# Altium footprint library National Semiconductor Footprints.PcbLib: 194 footprints (part 3 of 13)
Each footprint in its own frame and in the unit in brackets; x right, y up, seen from the top. Pads: shape width x height; smd on the part's side, far side on the other; paste and mask are expansions set on the pad; w line width, h text height; cw(c..) or ccw(c..) is an arc to the next point about the centre after c.
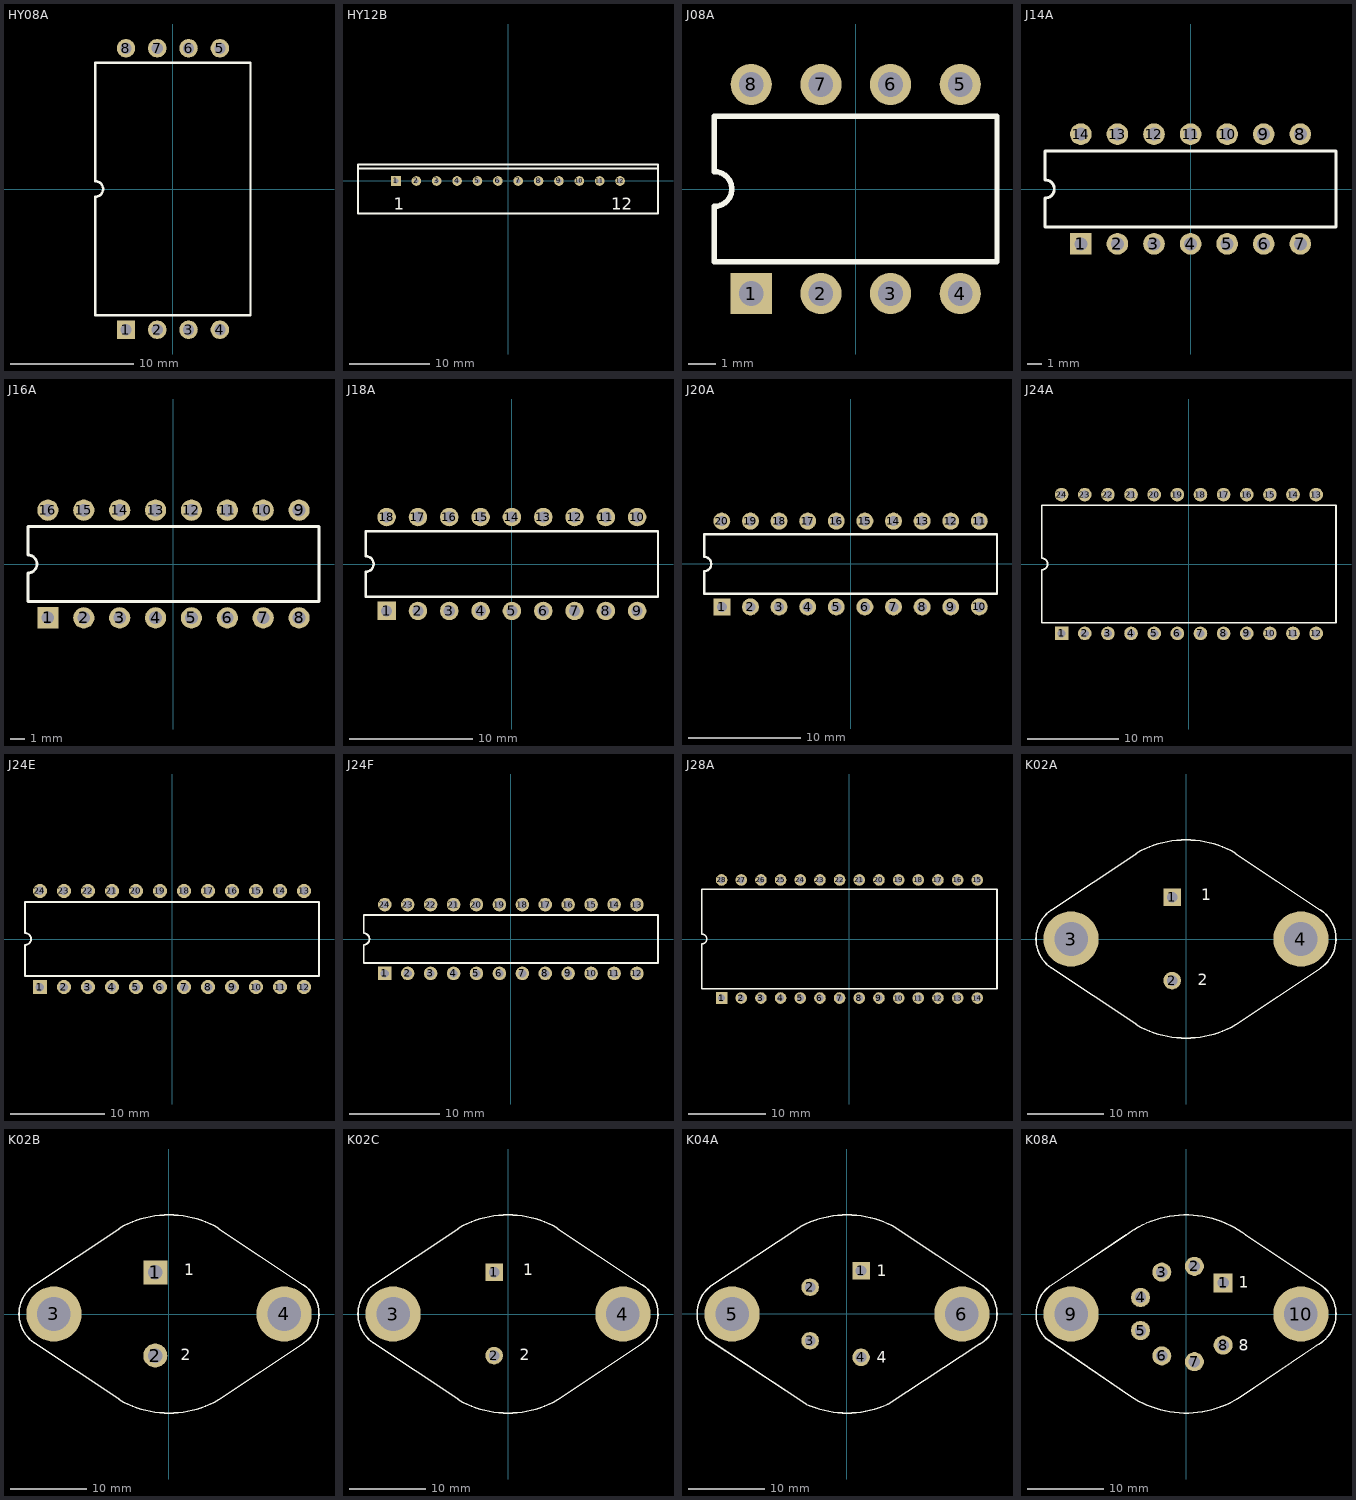
[diagram p2: the footprints below, top view; thin cyan lines are the x and y axes]

## HY08A [mm] "DIP; 8 Leads; Row Spacing 22.86 mm; Pitch 2.54 mm"
height 5.24
pads (8):
  rect 1.5x1.5 hole 0.9: 1(-3.81,-11.43)
  round 1.5 hole 0.9: 2(-1.27,-11.43) 3(1.27,-11.43) 4(3.81,-11.43) 5(3.81,11.43) 6(1.27,11.43) 7(-1.27,11.43) 8(-3.81,11.43)
Top Overlay:
  lines w0.2: 6.3,-10.25 -6.3,-10.25 -6.3,-0.635 ccw(c-6.3,0) -6.3,0.635 -6.3,10.25 6.3,10.25 6.3,-10.2

## HY12B [mm] "TO, Thru-Hole, Vertical, Heatsink Mounted; 12 In-Line Leads; Pitch 2.54 mm"
height 15.6
pads (12):
  rect 1.2x1.2 hole 0.6: 1(-13.97,0)
  round 1.2 hole 0.6: 2(-11.43,0) 3(-8.89,0) 4(-6.35,0) 5(-3.81,0) 6(-1.27,0) 7(1.27,0) 8(3.81,0) 9(6.35,0) 10(8.89,0) 11(11.43,0) 12(13.97,0)
Top Overlay:
  lines w0.2: -18.7,1.55 18.7,1.55 ; -18.7,-4.05 18.7,-4.05 18.7,2.05 -18.7,2.05 -18.7,-4.05
  text "1" at -14.22,-3.575 h1.5
  text "12" at 12.845,-3.575 h1.5

## J08A [mm] "DIP; 8 Leads; Row Spacing 7.62 mm; Pitch 2.54 mm"
height 5.08
pads (8):
  rect 1.5x1.5 hole 0.9: 1(-3.81,-3.81)
  round 1.5 hole 0.9: 2(-1.27,-3.81) 3(1.27,-3.81) 4(3.81,-3.81) 5(3.81,3.81) 6(1.27,3.81) 7(-1.27,3.81) 8(-3.81,3.81)
Top Overlay:
  lines w0.2: -5.15,-2.65 -5.15,-0.635 ccw(c-5.15,0) -5.15,0.635 -5.15,2.65 5.15,2.65 5.15,-2.65 -5.15,-2.65

## J14A [mm] "DIP; 14 Leads; Row Spacing 7.62 mm; Pitch 2.54 mm"
height 5.08
pads (14):
  rect 1.5x1.5 hole 0.9: 1(-7.62,-3.81)
  round 1.5 hole 0.9: 2(-5.08,-3.81) 3(-2.54,-3.81) 4(0,-3.81) 5(2.54,-3.81) 6(5.08,-3.81) 7(7.62,-3.81) 8(7.62,3.81) 9(5.08,3.81) 10(2.54,3.81) 11(0,3.81) 12(-2.54,3.81) 13(-5.08,3.81) 14(-7.62,3.81)
Top Overlay:
  lines w0.2: -10.1,-2.65 -10.1,-0.635 ccw(c-10.1,0) -10.1,0.635 -10.1,2.65 10.1,2.65 10.1,-2.65 -10.1,-2.65

## J16A [mm] "DIP; 16 Leads; Row Spacing 7.62 mm; Pitch 2.54 mm"
height 5.08
pads (16):
  rect 1.5x1.5 hole 0.9: 1(-8.89,-3.81)
  round 1.5 hole 0.9: 2(-6.35,-3.81) 3(-3.81,-3.81) 4(-1.27,-3.81) 5(1.27,-3.81) 6(3.81,-3.81) 7(6.35,-3.81) 8(8.89,-3.81) 9(8.89,3.81) 10(6.35,3.81) 11(3.81,3.81) 12(1.27,3.81) 13(-1.27,3.81) 14(-3.81,3.81) 15(-6.35,3.81) 16(-8.89,3.81)
Top Overlay:
  lines w0.2: -10.3,-2.65 -10.3,-0.635 ccw(c-10.3,0) -10.3,0.635 -10.3,2.65 10.3,2.65 10.3,-2.65 -10.3,-2.65

## J18A [mm] "DIP; 18 Leads; Row Spacing 7.62 mm; Pitch 2.54 mm"
height 5.08
pads (18):
  rect 1.5x1.5 hole 0.9: 1(-10.16,-3.81)
  round 1.5 hole 0.9: 2(-7.62,-3.81) 3(-5.08,-3.81) 4(-2.54,-3.81) 5(0,-3.81) 6(2.54,-3.81) 7(5.08,-3.81) 8(7.62,-3.81) 9(10.16,-3.81) 10(10.16,3.81) 11(7.62,3.81) 12(5.08,3.81) 13(2.54,3.81) 14(0,3.81) 15(-2.54,3.81) 16(-5.08,3.81) 17(-7.62,3.81) 18(-10.16,3.81)
Top Overlay:
  lines w0.2: -11.85,-2.65 11.85,-2.65 11.85,2.65 -11.85,2.65 -11.85,0.635 cw(c-11.85,0) -11.85,-0.635 -11.85,-2.65

## J20A [mm] "DIP; 20 Leads; Row Spacing 7.62 mm; Pitch 2.54 mm"
height 5.08
pads (20):
  rect 1.5x1.5 hole 0.9: 1(-11.43,-3.81)
  round 1.5 hole 0.9: 2(-8.89,-3.81) 3(-6.35,-3.81) 4(-3.81,-3.81) 5(-1.27,-3.81) 6(1.27,-3.81) 7(3.81,-3.81) 8(6.35,-3.81) 9(8.89,-3.81) 10(11.43,-3.81) 11(11.43,3.81) 12(8.89,3.81) 13(6.35,3.81) 14(3.81,3.81) 15(1.27,3.81) 16(-1.27,3.81) 17(-3.81,3.81) 18(-6.35,3.81) 19(-8.89,3.81) 20(-11.43,3.81)
Top Overlay:
  lines w0.2: -13,-2.65 -13,-0.635 ccw(c-13,0) -13,0.635 -13,2.65 13,2.65 13,-2.65 -13,-2.65

## J24A [mm] "DIP; 24 Leads; Row Spacing 15.24 mm; Pitch 2.54 mm"
height 5.72
pads (24):
  rect 1.5x1.5 hole 0.9: 1(-13.97,-7.62)
  round 1.5 hole 0.9: 2(-11.43,-7.62) 3(-8.89,-7.62) 4(-6.35,-7.62) 5(-3.81,-7.62) 6(-1.27,-7.62) 7(1.27,-7.62) 8(3.81,-7.62) 9(6.35,-7.62) 10(8.89,-7.62) 11(11.43,-7.62) 12(13.97,-7.62) 13(13.97,7.62) 14(11.43,7.62) 15(8.89,7.62) 16(6.35,7.62) 17(3.81,7.62) 18(1.27,7.62) 19(-1.27,7.62) 20(-3.81,7.62) 21(-6.35,7.62) 22(-8.89,7.62) 23(-11.43,7.62) 24(-13.97,7.62)
Top Overlay:
  lines w0.2: -16.15,-6.45 -16.15,-0.635 ccw(c-16.15,0) -16.15,0.635 -16.15,6.45 16.15,6.45 16.15,-6.45 -16.15,-6.45

## J24E [mm] "DIP; 24 Leads; Row Spacing 10.16 mm; Pitch 2.54 mm"
height 5.72
pads (24):
  rect 1.5x1.5 hole 0.9: 1(-13.97,-5.08)
  round 1.5 hole 0.9: 2(-11.43,-5.08) 3(-8.89,-5.08) 4(-6.35,-5.08) 5(-3.81,-5.08) 6(-1.27,-5.08) 7(1.27,-5.08) 8(3.81,-5.08) 9(6.35,-5.08) 10(8.89,-5.08) 11(11.43,-5.08) 12(13.97,-5.08) 13(13.97,5.08) 14(11.43,5.08) 15(8.89,5.08) 16(6.35,5.08) 17(3.81,5.08) 18(1.27,5.08) 19(-1.27,5.08) 20(-3.81,5.08) 21(-6.35,5.08) 22(-8.89,5.08) 23(-11.43,5.08) 24(-13.97,5.08)
Top Overlay:
  lines w0.2: -15.55,-3.9 15.55,-3.9 15.55,3.9 -15.55,3.9 -15.55,0.635 cw(c-15.55,0) -15.55,-0.635 -15.55,-3.9

## J24F [mm] "DIP; 24 Leads; Row Spacing 7.62 mm; Pitch 2.54 mm"
height 5.72
pads (24):
  rect 1.5x1.5 hole 0.9: 1(-13.97,-3.81)
  round 1.5 hole 0.9: 2(-11.43,-3.81) 3(-8.89,-3.81) 4(-6.35,-3.81) 5(-3.81,-3.81) 6(-1.27,-3.81) 7(1.27,-3.81) 8(3.81,-3.81) 9(6.35,-3.81) 10(8.89,-3.81) 11(11.43,-3.81) 12(13.97,-3.81) 13(13.97,3.81) 14(11.43,3.81) 15(8.89,3.81) 16(6.35,3.81) 17(3.81,3.81) 18(1.27,3.81) 19(-1.27,3.81) 20(-3.81,3.81) 21(-6.35,3.81) 22(-8.89,3.81) 23(-11.43,3.81) 24(-13.97,3.81)
Top Overlay:
  lines w0.2: -16.3,-2.65 16.3,-2.65 16.3,2.65 -16.3,2.65 -16.3,0.635 cw(c-16.3,0) -16.3,-0.635 -16.3,-2.65

## J28A [mm] "DIP; 28 Leads; Row Spacing 15.24 mm; Pitch 2.54 mm"
height 5.72
pads (28):
  rect 1.5x1.5 hole 0.9: 1(-16.51,-7.62)
  round 1.5 hole 0.9: 2(-13.97,-7.62) 3(-11.43,-7.62) 4(-8.89,-7.62) 5(-6.35,-7.62) 6(-3.81,-7.62) 7(-1.27,-7.62) 8(1.27,-7.62) 9(3.81,-7.62) 10(6.35,-7.62) 11(8.89,-7.62) 12(11.43,-7.62) 13(13.97,-7.62) 14(16.51,-7.62) 15(16.51,7.62) 16(13.97,7.62) 17(11.43,7.62) 18(8.89,7.62) 19(6.35,7.62) 20(3.81,7.62) 21(1.27,7.62) 22(-1.27,7.62) 23(-3.81,7.62) 24(-6.35,7.62) 25(-8.89,7.62) 26(-11.43,7.62) 27(-13.97,7.62) 28(-16.51,7.62)
Top Overlay:
  lines w0.2: -19.05,-6.45 19.05,-6.45 19.05,6.45 -19.05,6.45 -19.05,0.635 cw(c-19.05,0) -19.05,-0.635 -19.05,-6.45

## K02A [mm] "Oval Flange Mount with (2) Offset Leads; Pin Spacing 10.93 mm; Lead Dia. 1.09 mm (max)"
height 8.94
pads (4):
  rect 2.3x2.3 hole 1.4: 1(-1.815,5.46)
  round 2.3 hole 1.4: 2(-1.815,-5.46)
  round 7.25 hole 4.4: 3(-15.075,0) 4(15.075,0)
Top Overlay:
  lines w0.2: -17.8,-3.7 -6.5,-11.2 ; -17.8,3.7 -6.5,11.2 ; -17.713,-3.768 cw(c-15.075,0) -17.713,3.768 ; -6.5,-11.258 ccw(c0,0) 6.5,-11.258 ; -6.5,11.258 cw(c0,0) 6.5,11.258 ; 6.5,11.2 17.6,3.8 ; 6.6,-11.2 17.7,-3.8 ; 17.58,3.858 cw(c15.075,0) 17.713,-3.768
  text "2" at 1.524,-6.096 h1.5
  text "1" at 2.032,5.08 h1.5

## K02B [mm] "Oval Flange Mount with (2) Offset Leads; Pin Spacing 10.92 mm; Lead Dia. 1.6 mm (max)"
height 8.89
pads (4):
  rect 3.15x3.15 hole 1.9: 1(-1.795,5.46)
  round 3.15 hole 1.9: 2(-1.795,-5.46)
  round 7.25 hole 4.4: 3(-15.095,0) 4(15.095,0)
Top Overlay:
  lines w0.2: -17.8,-3.7 -6.5,-11.2 ; -17.8,3.7 -6.5,11.2 ; -17.713,-3.768 cw(c-15.075,0) -17.713,3.768 ; -6.5,-11.258 ccw(c0,0) 6.5,-11.258 ; -6.5,11.258 cw(c0,0) 6.5,11.258 ; 6.5,11.2 17.6,3.8 ; 6.6,-11.2 17.7,-3.8 ; 17.58,3.858 cw(c15.075,0) 17.713,-3.768
  text "2" at 1.524,-6.096 h1.5
  text "1" at 2.032,5.08 h1.5

## K02C [mm] "Oval Flange Mount with (2) Offset Leads; Pin Spacing 10.92 mm; Lead Dia. 1.09 mm (max)"
height 7.74
pads (4):
  rect 2.3x2.3 hole 1.4: 1(-1.815,5.46)
  round 2.3 hole 1.4: 2(-1.815,-5.46)
  round 7.25 hole 4.4: 3(-15.075,0) 4(15.075,0)
Top Overlay:
  lines w0.2: -17.8,-3.7 -6.5,-11.2 ; -17.8,3.7 -6.5,11.2 ; -17.713,-3.768 cw(c-15.075,0) -17.713,3.768 ; -6.5,-11.258 ccw(c0,0) 6.5,-11.258 ; -6.5,11.258 cw(c0,0) 6.5,11.258 ; 6.5,11.2 17.6,3.8 ; 6.6,-11.2 17.7,-3.8 ; 17.58,3.858 cw(c15.075,0) 17.713,-3.768
  text "1" at 2.032,5.08 h1.5
  text "2" at 1.524,-6.096 h1.5

## K04A [mm] "Oval Flange Mount; 4 Leads; Pin Circle Dia. 11.94 mm; Lead Dia. 1.09 mm (max)"
height 8.89
pads (6):
  rect 2.3x2.3 hole 1.4: 1(1.844,5.677)
  round 2.3 hole 1.4: 2(-4.829,3.508) 3(-4.829,-3.508) 4(1.844,-5.677)
  round 7.25 hole 4.4: 5(-15.075,0) 6(15.075,0)
Top Overlay:
  lines w0.2: -18.53,-3.125 -5.33,-11.825 ; -18.395,-3.184 cw(c-15.075,0) -17.92,3.615 ; -18.03,3.575 -5.93,11.575 ; -5.917,11.575 cw(c0,0) 5.946,11.56 17.87,3.675 ; -5.275,-11.882 ccw(c0,0) 5.307,-11.867 ; 5.37,-11.825 17.47,-3.925 ; 17.375,-3.984 ccw(c15.075,0) 17.688,3.786
  text "1" at 3.93,4.96 h1.5
  text "4" at 3.93,-6.41 h1.5

## K08A [mm] "Oval Flange Mount; 8 Leads; Pin Circle Dia. 12.7 mm; Lead Dia. 1.12 mm (max)"
height 10.04
pads (10):
  rect 2.5x2.5 hole 1.5: 1(4.864,4.082)
  round 2.5 hole 1.5: 2(1.102,6.253) 3(-3.175,5.499) 4(-5.967,2.172) 5(-5.967,-2.172) 6(-3.175,-5.499) 7(1.102,-6.254) 8(4.864,-4.082)
  round 7.25 hole 4.4: 9(-15.075,0) 10(15.075,0)
Top Overlay:
  lines w0.2: -17.92,3.615 ccw(c-15.075,0) -18.395,-3.184 -7.258,-10.786 ; -17.92,3.615 -7.837,10.372 cw(c0,0) 7.863,10.352 17.688,3.786 ; -7.258,-10.785 ccw(c0,0) 7.287,-10.766 17.103,-4.129 ccw(c15.075,0) 17.688,3.786
  text "8" at 6.9,-4.814 h1.5
  text "1" at 6.9,3.427 h1.5